# Altium integrated library Wurth_Elektronik_Passive_rev16a.IntLib: 1143 symbols (part 18 of 28)
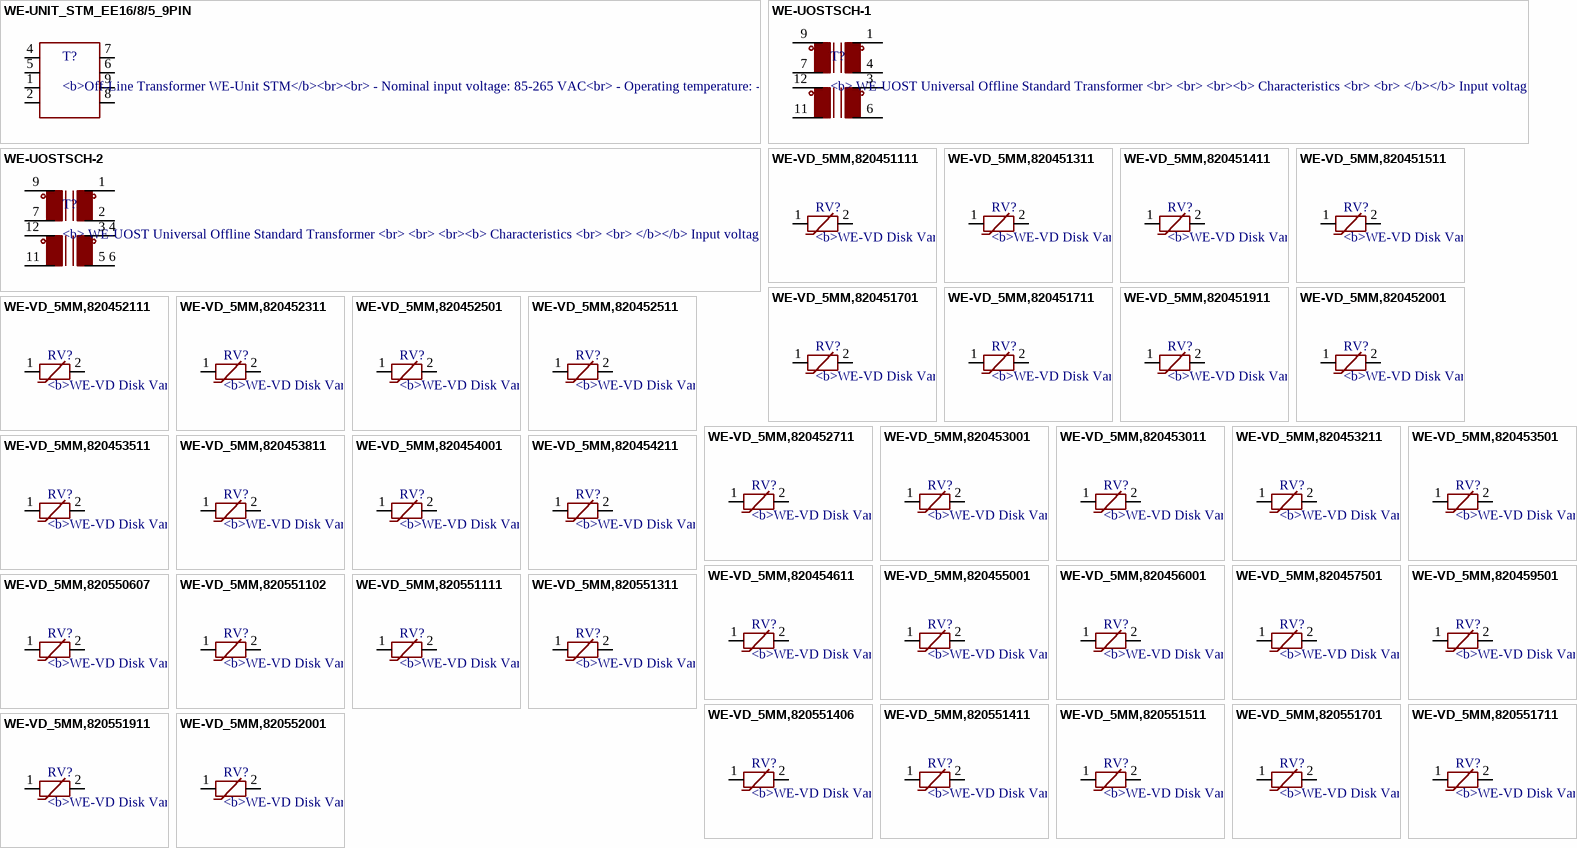
[diagram p75: symbols WE-UNIT_STM_EE16/8/5_9PIN to WE-VD_5MM,820552001]

## WE-VD_5MM,820452111
designator RV?, comment <b>WE-VD Disk Varistor / <br> / <br> / <br><b>Characteristics / <br> / <br></b></b> Low clamping voltage / <br> / <br> After a surge impulse the varistor works immediately in normal mode so there is no slip current / <br> / <br> Excellent absorption at surge impulses / <br> / <br> Operating temperature: –40 ºC to +85 ºC for types up to 95 VRMS –40 ºC to +125 ºC for types from 115 VRMS / <br> / <br> Response time < 25 ns / <br> / <br> UL1449 3rd Edition, CSA and VDE approved UL: File E332875 CSA: File 224856 VDE: File 40016986 and 40016998 IEC: 60950-1: 2005 Annex Q from ∅ 10 mm / <br> / <br> / <br><b> Applications / <br> / <br></b> 12–48 VDC distribution / <br> / <br> 110–400 V power supply / <br> / <br> Leakage of voltage peaks / <br> / <br> Surge protection in accordance with EN 61000-4-5 / <br> / <br> / <br> / <br><a href="http://katalog.we-online.de/media/images/eisos/VarVD_pf2.jpg" title="Enlarge picture"> / <img src="http://katalog.we-online.de/media/images/eisos/VarVD_pf2.jpg" width="320"></a><p> / Details see: <a href="http://katalog.we-online.de/en/pbs/WE-VD?">http://katalog.we-online.de/en/pbs/WE-VD?</a><p> / Updated  by  Dan Xu 2014-07-11<br> / 2014 (C) Wurth Elektronik
MANUFACTURER: Würth Elektronik eiSos GmbH; CREATED-BY: Christin Zierenner; COMPANY-URL: http://www.we-online.de; CREATED-DATE: May 2012; DATASHEET-URL: http://katalog.we-online.de/kataloge/eisos/index.php?language=en&pf=WE-VD
footprint WE-VD_5MM-1.0
pins: 1, 2

## WE-VD_5MM,820452311
designator RV?, comment <b>WE-VD Disk Varistor / <br> / <br> / <br><b>Characteristics / <br> / <br></b></b> Low clamping voltage / <br> / <br> After a surge impulse the varistor works immediately in normal mode so there is no slip current / <br> / <br> Excellent absorption at surge impulses / <br> / <br> Operating temperature: –40 ºC to +85 ºC for types up to 95 VRMS –40 ºC to +125 ºC for types from 115 VRMS / <br> / <br> Response time < 25 ns / <br> / <br> UL1449 3rd Edition, CSA and VDE approved UL: File E332875 CSA: File 224856 VDE: File 40016986 and 40016998 IEC: 60950-1: 2005 Annex Q from ∅ 10 mm / <br> / <br> / <br><b> Applications / <br> / <br></b> 12–48 VDC distribution / <br> / <br> 110–400 V power supply / <br> / <br> Leakage of voltage peaks / <br> / <br> Surge protection in accordance with EN 61000-4-5 / <br> / <br> / <br> / <br><a href="http://katalog.we-online.de/media/images/eisos/VarVD_pf2.jpg" title="Enlarge picture"> / <img src="http://katalog.we-online.de/media/images/eisos/VarVD_pf2.jpg" width="320"></a><p> / Details see: <a href="http://katalog.we-online.de/en/pbs/WE-VD?">http://katalog.we-online.de/en/pbs/WE-VD?</a><p> / Updated  by  Dan Xu 2014-07-11<br> / 2014 (C) Wurth Elektronik
MANUFACTURER: Würth Elektronik eiSos GmbH; CREATED-BY: Christin Zierenner; COMPANY-URL: http://www.we-online.de; CREATED-DATE: May 2012; DATASHEET-URL: http://katalog.we-online.de/kataloge/eisos/index.php?language=en&pf=WE-VD
footprint WE-VD_5MM-1.1
pins: 1, 2

## WE-VD_5MM,820452501
designator RV?, comment <b>WE-VD Disk Varistor / <br> / <br> / <br><b>Characteristics / <br> / <br></b></b> Low clamping voltage / <br> / <br> After a surge impulse the varistor works immediately in normal mode so there is no slip current / <br> / <br> Excellent absorption at surge impulses / <br> / <br> Operating temperature: –40 ºC to +85 ºC for types up to 95 VRMS –40 ºC to +125 ºC for types from 115 VRMS / <br> / <br> Response time < 25 ns / <br> / <br> UL1449 3rd Edition, CSA and VDE approved UL: File E332875 CSA: File 224856 VDE: File 40016986 and 40016998 IEC: 60950-1: 2005 Annex Q from ∅ 10 mm / <br> / <br> / <br><b> Applications / <br> / <br></b> 12–48 VDC distribution / <br> / <br> 110–400 V power supply / <br> / <br> Leakage of voltage peaks / <br> / <br> Surge protection in accordance with EN 61000-4-5 / <br> / <br> / <br> / <br><a href="http://katalog.we-online.de/media/images/eisos/VarVD_pf2.jpg" title="Enlarge picture"> / <img src="http://katalog.we-online.de/media/images/eisos/VarVD_pf2.jpg" width="320"></a><p> / Details see: <a href="http://katalog.we-online.de/en/pbs/WE-VD?">http://katalog.we-online.de/en/pbs/WE-VD?</a><p> / Updated  by  Dan Xu 2014-07-11<br> / 2014 (C) Wurth Elektronik
MANUFACTURER: Würth Elektronik eiSos GmbH; CREATED-BY: Christin Zierenner; COMPANY-URL: http://www.we-online.de; CREATED-DATE: May 2012; DATASHEET-URL: http://katalog.we-online.de/kataloge/eisos/index.php?language=en&pf=WE-VD
footprint WE-VD_5MM-DIA
pins: 1, 2

## WE-VD_5MM,820452511
designator RV?, comment <b>WE-VD Disk Varistor / <br> / <br> / <br><b>Characteristics / <br> / <br></b></b> Low clamping voltage / <br> / <br> After a surge impulse the varistor works immediately in normal mode so there is no slip current / <br> / <br> Excellent absorption at surge impulses / <br> / <br> Operating temperature: –40 ºC to +85 ºC for types up to 95 VRMS –40 ºC to +125 ºC for types from 115 VRMS / <br> / <br> Response time < 25 ns / <br> / <br> UL1449 3rd Edition, CSA and VDE approved UL: File E332875 CSA: File 224856 VDE: File 40016986 and 40016998 IEC: 60950-1: 2005 Annex Q from ∅ 10 mm / <br> / <br> / <br><b> Applications / <br> / <br></b> 12–48 VDC distribution / <br> / <br> 110–400 V power supply / <br> / <br> Leakage of voltage peaks / <br> / <br> Surge protection in accordance with EN 61000-4-5 / <br> / <br> / <br> / <br><a href="http://katalog.we-online.de/media/images/eisos/VarVD_pf2.jpg" title="Enlarge picture"> / <img src="http://katalog.we-online.de/media/images/eisos/VarVD_pf2.jpg" width="320"></a><p> / Details see: <a href="http://katalog.we-online.de/en/pbs/WE-VD?">http://katalog.we-online.de/en/pbs/WE-VD?</a><p> / Updated  by  Dan Xu 2014-07-11<br> / 2014 (C) Wurth Elektronik
MANUFACTURER: Würth Elektronik eiSos GmbH; CREATED-BY: Christin Zierenner; COMPANY-URL: http://www.we-online.de; CREATED-DATE: May 2012; DATASHEET-URL: http://katalog.we-online.de/kataloge/eisos/index.php?language=en&pf=WE-VD
footprint WE-VD_5MM-1.3
pins: 1, 2

## WE-VD_5MM,820452711
designator RV?, comment <b>WE-VD Disk Varistor / <br> / <br> / <br><b>Characteristics / <br> / <br></b></b> Low clamping voltage / <br> / <br> After a surge impulse the varistor works immediately in normal mode so there is no slip current / <br> / <br> Excellent absorption at surge impulses / <br> / <br> Operating temperature: –40 ºC to +85 ºC for types up to 95 VRMS –40 ºC to +125 ºC for types from 115 VRMS / <br> / <br> Response time < 25 ns / <br> / <br> UL1449 3rd Edition, CSA and VDE approved UL: File E332875 CSA: File 224856 VDE: File 40016986 and 40016998 IEC: 60950-1: 2005 Annex Q from ∅ 10 mm / <br> / <br> / <br><b> Applications / <br> / <br></b> 12–48 VDC distribution / <br> / <br> 110–400 V power supply / <br> / <br> Leakage of voltage peaks / <br> / <br> Surge protection in accordance with EN 61000-4-5 / <br> / <br> / <br> / <br><a href="http://katalog.we-online.de/media/images/eisos/VarVD_pf2.jpg" title="Enlarge picture"> / <img src="http://katalog.we-online.de/media/images/eisos/VarVD_pf2.jpg" width="320"></a><p> / Details see: <a href="http://katalog.we-online.de/en/pbs/WE-VD?">http://katalog.we-online.de/en/pbs/WE-VD?</a><p> / Updated  by  Dan Xu 2014-07-11<br> / 2014 (C) Wurth Elektronik
MANUFACTURER: Würth Elektronik eiSos GmbH; CREATED-BY: Christin Zierenner; COMPANY-URL: http://www.we-online.de; CREATED-DATE: May 2012; DATASHEET-URL: http://katalog.we-online.de/kataloge/eisos/index.php?language=en&pf=WE-VD
footprint WE-VD_5MM-1.5
pins: 1, 2

## WE-VD_5MM,820453001
designator RV?, comment <b>WE-VD Disk Varistor / <br> / <br> / <br><b>Characteristics / <br> / <br></b></b> Low clamping voltage / <br> / <br> After a surge impulse the varistor works immediately in normal mode so there is no slip current / <br> / <br> Excellent absorption at surge impulses / <br> / <br> Operating temperature: –40 ºC to +85 ºC for types up to 95 VRMS –40 ºC to +125 ºC for types from 115 VRMS / <br> / <br> Response time < 25 ns / <br> / <br> UL1449 3rd Edition, CSA and VDE approved UL: File E332875 CSA: File 224856 VDE: File 40016986 and 40016998 IEC: 60950-1: 2005 Annex Q from ∅ 10 mm / <br> / <br> / <br><b> Applications / <br> / <br></b> 12–48 VDC distribution / <br> / <br> 110–400 V power supply / <br> / <br> Leakage of voltage peaks / <br> / <br> Surge protection in accordance with EN 61000-4-5 / <br> / <br> / <br> / <br><a href="http://katalog.we-online.de/media/images/eisos/VarVD_pf2.jpg" title="Enlarge picture"> / <img src="http://katalog.we-online.de/media/images/eisos/VarVD_pf2.jpg" width="320"></a><p> / Details see: <a href="http://katalog.we-online.de/en/pbs/WE-VD?">http://katalog.we-online.de/en/pbs/WE-VD?</a><p> / Updated  by  Dan Xu 2014-07-11<br> / 2014 (C) Wurth Elektronik
MANUFACTURER: Würth Elektronik eiSos GmbH; CREATED-BY: Christin Zierenner; COMPANY-URL: http://www.we-online.de; CREATED-DATE: May 2012; DATASHEET-URL: http://katalog.we-online.de/kataloge/eisos/media/pdf/820453001.pdf
footprint WE-VD_5MM-DIA
pins: 1, 2

## WE-VD_5MM,820453011
designator RV?, comment <b>WE-VD Disk Varistor / <br> / <br> / <br><b>Characteristics / <br> / <br></b></b> Low clamping voltage / <br> / <br> After a surge impulse the varistor works immediately in normal mode so there is no slip current / <br> / <br> Excellent absorption at surge impulses / <br> / <br> Operating temperature: –40 ºC to +85 ºC for types up to 95 VRMS –40 ºC to +125 ºC for types from 115 VRMS / <br> / <br> Response time < 25 ns / <br> / <br> UL1449 3rd Edition, CSA and VDE approved UL: File E332875 CSA: File 224856 VDE: File 40016986 and 40016998 IEC: 60950-1: 2005 Annex Q from ∅ 10 mm / <br> / <br> / <br><b> Applications / <br> / <br></b> 12–48 VDC distribution / <br> / <br> 110–400 V power supply / <br> / <br> Leakage of voltage peaks / <br> / <br> Surge protection in accordance with EN 61000-4-5 / <br> / <br> / <br> / <br><a href="http://katalog.we-online.de/media/images/eisos/VarVD_pf2.jpg" title="Enlarge picture"> / <img src="http://katalog.we-online.de/media/images/eisos/VarVD_pf2.jpg" width="320"></a><p> / Details see: <a href="http://katalog.we-online.de/en/pbs/WE-VD?">http://katalog.we-online.de/en/pbs/WE-VD?</a><p> / Updated  by  Dan Xu 2014-07-11<br> / 2014 (C) Wurth Elektronik
MANUFACTURER: Würth Elektronik eiSos GmbH; CREATED-BY: Christin Zierenner; COMPANY-URL: http://www.we-online.de; CREATED-DATE: May 2012; DATASHEET-URL: http://katalog.we-online.de/kataloge/eisos/index.php?language=en&pf=WE-VD
footprint WE-VD_5MM-1.7
pins: 1, 2

## WE-VD_5MM,820453211
designator RV?, comment <b>WE-VD Disk Varistor / <br> / <br> / <br><b>Characteristics / <br> / <br></b></b> Low clamping voltage / <br> / <br> After a surge impulse the varistor works immediately in normal mode so there is no slip current / <br> / <br> Excellent absorption at surge impulses / <br> / <br> Operating temperature: –40 ºC to +85 ºC for types up to 95 VRMS –40 ºC to +125 ºC for types from 115 VRMS / <br> / <br> Response time < 25 ns / <br> / <br> UL1449 3rd Edition, CSA and VDE approved UL: File E332875 CSA: File 224856 VDE: File 40016986 and 40016998 IEC: 60950-1: 2005 Annex Q from ∅ 10 mm / <br> / <br> / <br><b> Applications / <br> / <br></b> 12–48 VDC distribution / <br> / <br> 110–400 V power supply / <br> / <br> Leakage of voltage peaks / <br> / <br> Surge protection in accordance with EN 61000-4-5 / <br> / <br> / <br> / <br><a href="http://katalog.we-online.de/media/images/eisos/VarVD_pf2.jpg" title="Enlarge picture"> / <img src="http://katalog.we-online.de/media/images/eisos/VarVD_pf2.jpg" width="320"></a><p> / Details see: <a href="http://katalog.we-online.de/en/pbs/WE-VD?">http://katalog.we-online.de/en/pbs/WE-VD?</a><p> / Updated  by  Dan Xu 2014-07-11<br> / 2014 (C) Wurth Elektronik
MANUFACTURER: Würth Elektronik eiSos GmbH; CREATED-BY: Christin Zierenner; COMPANY-URL: http://www.we-online.de; CREATED-DATE: May 2012; DATASHEET-URL: http://katalog.we-online.de/kataloge/eisos/index.php?language=en&pf=WE-VD
footprint WE-VD_5MM-1.8
pins: 1, 2

## WE-VD_5MM,820453501
designator RV?, comment <b>WE-VD Disk Varistor / <br> / <br> / <br><b>Characteristics / <br> / <br></b></b> Low clamping voltage / <br> / <br> After a surge impulse the varistor works immediately in normal mode so there is no slip current / <br> / <br> Excellent absorption at surge impulses / <br> / <br> Operating temperature: –40 ºC to +85 ºC for types up to 95 VRMS –40 ºC to +125 ºC for types from 115 VRMS / <br> / <br> Response time < 25 ns / <br> / <br> UL1449 3rd Edition, CSA and VDE approved UL: File E332875 CSA: File 224856 VDE: File 40016986 and 40016998 IEC: 60950-1: 2005 Annex Q from ∅ 10 mm / <br> / <br> / <br><b> Applications / <br> / <br></b> 12–48 VDC distribution / <br> / <br> 110–400 V power supply / <br> / <br> Leakage of voltage peaks / <br> / <br> Surge protection in accordance with EN 61000-4-5 / <br> / <br> / <br> / <br><a href="http://katalog.we-online.de/media/images/eisos/VarVD_pf2.jpg" title="Enlarge picture"> / <img src="http://katalog.we-online.de/media/images/eisos/VarVD_pf2.jpg" width="320"></a><p> / Details see: <a href="http://katalog.we-online.de/en/pbs/WE-VD?">http://katalog.we-online.de/en/pbs/WE-VD?</a><p> / Updated  by  Dan Xu 2014-07-11<br> / 2014 (C) Wurth Elektronik
MANUFACTURER: Würth Elektronik eiSos GmbH; CREATED-BY: Christin Zierenner; COMPANY-URL: http://www.we-online.de; CREATED-DATE: May 2012; DATASHEET-URL: http://katalog.we-online.de/kataloge/eisos/index.php?language=en&pf=WE-VD
footprint WE-VD_5MM-1.1
pins: 1, 2

## WE-VD_5MM,820453511
designator RV?, comment <b>WE-VD Disk Varistor / <br> / <br> / <br><b>Characteristics / <br> / <br></b></b> Low clamping voltage / <br> / <br> After a surge impulse the varistor works immediately in normal mode so there is no slip current / <br> / <br> Excellent absorption at surge impulses / <br> / <br> Operating temperature: –40 ºC to +85 ºC for types up to 95 VRMS –40 ºC to +125 ºC for types from 115 VRMS / <br> / <br> Response time < 25 ns / <br> / <br> UL1449 3rd Edition, CSA and VDE approved UL: File E332875 CSA: File 224856 VDE: File 40016986 and 40016998 IEC: 60950-1: 2005 Annex Q from ∅ 10 mm / <br> / <br> / <br><b> Applications / <br> / <br></b> 12–48 VDC distribution / <br> / <br> 110–400 V power supply / <br> / <br> Leakage of voltage peaks / <br> / <br> Surge protection in accordance with EN 61000-4-5 / <br> / <br> / <br> / <br><a href="http://katalog.we-online.de/media/images/eisos/VarVD_pf2.jpg" title="Enlarge picture"> / <img src="http://katalog.we-online.de/media/images/eisos/VarVD_pf2.jpg" width="320"></a><p> / Details see: <a href="http://katalog.we-online.de/en/pbs/WE-VD?">http://katalog.we-online.de/en/pbs/WE-VD?</a><p> / Updated  by  Dan Xu 2014-07-11<br> / 2014 (C) Wurth Elektronik
MANUFACTURER: Würth Elektronik eiSos GmbH; CREATED-BY: Christin Zierenner; COMPANY-URL: http://www.we-online.de; CREATED-DATE: May 2012; DATASHEET-URL: http://katalog.we-online.de/kataloge/eisos/index.php?language=en&pf=WE-VD
footprint WE-VD_5MM-2.1
pins: 1, 2

## WE-VD_5MM,820453811
designator RV?, comment <b>WE-VD Disk Varistor / <br> / <br> / <br><b>Characteristics / <br> / <br></b></b> Low clamping voltage / <br> / <br> After a surge impulse the varistor works immediately in normal mode so there is no slip current / <br> / <br> Excellent absorption at surge impulses / <br> / <br> Operating temperature: –40 ºC to +85 ºC for types up to 95 VRMS –40 ºC to +125 ºC for types from 115 VRMS / <br> / <br> Response time < 25 ns / <br> / <br> UL1449 3rd Edition, CSA and VDE approved UL: File E332875 CSA: File 224856 VDE: File 40016986 and 40016998 IEC: 60950-1: 2005 Annex Q from ∅ 10 mm / <br> / <br> / <br><b> Applications / <br> / <br></b> 12–48 VDC distribution / <br> / <br> 110–400 V power supply / <br> / <br> Leakage of voltage peaks / <br> / <br> Surge protection in accordance with EN 61000-4-5 / <br> / <br> / <br> / <br><a href="http://katalog.we-online.de/media/images/eisos/VarVD_pf2.jpg" title="Enlarge picture"> / <img src="http://katalog.we-online.de/media/images/eisos/VarVD_pf2.jpg" width="320"></a><p> / Details see: <a href="http://katalog.we-online.de/en/pbs/WE-VD?">http://katalog.we-online.de/en/pbs/WE-VD?</a><p> / Updated  by  Dan Xu 2014-07-11<br> / 2014 (C) Wurth Elektronik
MANUFACTURER: Würth Elektronik eiSos GmbH; CREATED-BY: Christin Zierenner; COMPANY-URL: http://www.we-online.de; CREATED-DATE: May 2012; DATASHEET-URL: http://katalog.we-online.de/kataloge/eisos/media/pdf/820453811.pdf
footprint WE-VD_5MM-2.4
pins: 1, 2

## WE-VD_5MM,820454001
designator RV?, comment <b>WE-VD Disk Varistor / <br> / <br> / <br><b>Characteristics / <br> / <br></b></b> Low clamping voltage / <br> / <br> After a surge impulse the varistor works immediately in normal mode so there is no slip current / <br> / <br> Excellent absorption at surge impulses / <br> / <br> Operating temperature: –40 ºC to +85 ºC for types up to 95 VRMS –40 ºC to +125 ºC for types from 115 VRMS / <br> / <br> Response time < 25 ns / <br> / <br> UL1449 3rd Edition, CSA and VDE approved UL: File E332875 CSA: File 224856 VDE: File 40016986 and 40016998 IEC: 60950-1: 2005 Annex Q from ∅ 10 mm / <br> / <br> / <br><b> Applications / <br> / <br></b> 12–48 VDC distribution / <br> / <br> 110–400 V power supply / <br> / <br> Leakage of voltage peaks / <br> / <br> Surge protection in accordance with EN 61000-4-5 / <br> / <br> / <br> / <br><a href="http://katalog.we-online.de/media/images/eisos/VarVD_pf2.jpg" title="Enlarge picture"> / <img src="http://katalog.we-online.de/media/images/eisos/VarVD_pf2.jpg" width="320"></a><p> / Details see: <a href="http://katalog.we-online.de/en/pbs/WE-VD?">http://katalog.we-online.de/en/pbs/WE-VD?</a><p> / Updated  by  Dan Xu 2014-07-11<br> / 2014 (C) Wurth Elektronik
MANUFACTURER: Würth Elektronik eiSos GmbH; CREATED-BY: Christin Zierenner; COMPANY-URL: http://www.we-online.de; CREATED-DATE: May 2012; DATASHEET-URL: http://katalog.we-online.de/kataloge/eisos/index.php?language=en&pf=WE-VD
footprint WE-VD_5MM-1.5
pins: 1, 2

## WE-VD_5MM,820454211
designator RV?, comment <b>WE-VD Disk Varistor / <br> / <br> / <br><b>Characteristics / <br> / <br></b></b> Low clamping voltage / <br> / <br> After a surge impulse the varistor works immediately in normal mode so there is no slip current / <br> / <br> Excellent absorption at surge impulses / <br> / <br> Operating temperature: –40 ºC to +85 ºC for types up to 95 VRMS –40 ºC to +125 ºC for types from 115 VRMS / <br> / <br> Response time < 25 ns / <br> / <br> UL1449 3rd Edition, CSA and VDE approved UL: File E332875 CSA: File 224856 VDE: File 40016986 and 40016998 IEC: 60950-1: 2005 Annex Q from ∅ 10 mm / <br> / <br> / <br><b> Applications / <br> / <br></b> 12–48 VDC distribution / <br> / <br> 110–400 V power supply / <br> / <br> Leakage of voltage peaks / <br> / <br> Surge protection in accordance with EN 61000-4-5 / <br> / <br> / <br> / <br><a href="http://katalog.we-online.de/media/images/eisos/VarVD_pf2.jpg" title="Enlarge picture"> / <img src="http://katalog.we-online.de/media/images/eisos/VarVD_pf2.jpg" width="320"></a><p> / Details see: <a href="http://katalog.we-online.de/en/pbs/WE-VD?">http://katalog.we-online.de/en/pbs/WE-VD?</a><p> / Updated  by  Dan Xu 2014-07-11<br> / 2014 (C) Wurth Elektronik
MANUFACTURER: Würth Elektronik eiSos GmbH; CREATED-BY: Christin Zierenner; COMPANY-URL: http://www.we-online.de; CREATED-DATE: May 2012; DATASHEET-URL: http://katalog.we-online.de/kataloge/eisos/index.php?language=en&pf=WE-VD
footprint WE-VD_5MM-2.7
pins: 1, 2

## WE-VD_5MM,820454611
designator RV?, comment <b>WE-VD Disk Varistor / <br> / <br> / <br><b>Characteristics / <br> / <br></b></b> Low clamping voltage / <br> / <br> After a surge impulse the varistor works immediately in normal mode so there is no slip current / <br> / <br> Excellent absorption at surge impulses / <br> / <br> Operating temperature: –40 ºC to +85 ºC for types up to 95 VRMS –40 ºC to +125 ºC for types from 115 VRMS / <br> / <br> Response time < 25 ns / <br> / <br> UL1449 3rd Edition, CSA and VDE approved UL: File E332875 CSA: File 224856 VDE: File 40016986 and 40016998 IEC: 60950-1: 2005 Annex Q from ∅ 10 mm / <br> / <br> / <br><b> Applications / <br> / <br></b> 12–48 VDC distribution / <br> / <br> 110–400 V power supply / <br> / <br> Leakage of voltage peaks / <br> / <br> Surge protection in accordance with EN 61000-4-5 / <br> / <br> / <br> / <br><a href="http://katalog.we-online.de/media/images/eisos/VarVD_pf2.jpg" title="Enlarge picture"> / <img src="http://katalog.we-online.de/media/images/eisos/VarVD_pf2.jpg" width="320"></a><p> / Details see: <a href="http://katalog.we-online.de/en/pbs/WE-VD?">http://katalog.we-online.de/en/pbs/WE-VD?</a><p> / Updated  by  Dan Xu 2014-07-11<br> / 2014 (C) Wurth Elektronik
MANUFACTURER: Würth Elektronik eiSos GmbH; CREATED-BY: Christin Zierenner; COMPANY-URL: http://www.we-online.de; CREATED-DATE: May 2012; DATASHEET-URL: http://katalog.we-online.de/kataloge/eisos/index.php?language=en&pf=WE-VD
footprint WE-VD_5MM-3.0
pins: 1, 2

## WE-VD_5MM,820455001
designator RV?, comment <b>WE-VD Disk Varistor / <br> / <br> / <br><b>Characteristics / <br> / <br></b></b> Low clamping voltage / <br> / <br> After a surge impulse the varistor works immediately in normal mode so there is no slip current / <br> / <br> Excellent absorption at surge impulses / <br> / <br> Operating temperature: –40 ºC to +85 ºC for types up to 95 VRMS –40 ºC to +125 ºC for types from 115 VRMS / <br> / <br> Response time < 25 ns / <br> / <br> UL1449 3rd Edition, CSA and VDE approved UL: File E332875 CSA: File 224856 VDE: File 40016986 and 40016998 IEC: 60950-1: 2005 Annex Q from ∅ 10 mm / <br> / <br> / <br><b> Applications / <br> / <br></b> 12–48 VDC distribution / <br> / <br> 110–400 V power supply / <br> / <br> Leakage of voltage peaks / <br> / <br> Surge protection in accordance with EN 61000-4-5 / <br> / <br> / <br> / <br><a href="http://katalog.we-online.de/media/images/eisos/VarVD_pf2.jpg" title="Enlarge picture"> / <img src="http://katalog.we-online.de/media/images/eisos/VarVD_pf2.jpg" width="320"></a><p> / Details see: <a href="http://katalog.we-online.de/en/pbs/WE-VD?">http://katalog.we-online.de/en/pbs/WE-VD?</a><p> / Updated  by  Dan Xu 2014-07-11<br> / 2014 (C) Wurth Elektronik
MANUFACTURER: Würth Elektronik eiSos GmbH; CREATED-BY: Christin Zierenner; COMPANY-URL: http://www.we-online.de; CREATED-DATE: May 2012; DATASHEET-URL: http://katalog.we-online.de/kataloge/eisos/index.php?language=en&pf=WE-VD
footprint WE-VD_5MM-DIA
pins: 1, 2

## WE-VD_5MM,820456001
designator RV?, comment <b>WE-VD Disk Varistor / <br> / <br> / <br><b>Characteristics / <br> / <br></b></b> Low clamping voltage / <br> / <br> After a surge impulse the varistor works immediately in normal mode so there is no slip current / <br> / <br> Excellent absorption at surge impulses / <br> / <br> Operating temperature: –40 ºC to +85 ºC for types up to 95 VRMS –40 ºC to +125 ºC for types from 115 VRMS / <br> / <br> Response time < 25 ns / <br> / <br> UL1449 3rd Edition, CSA and VDE approved UL: File E332875 CSA: File 224856 VDE: File 40016986 and 40016998 IEC: 60950-1: 2005 Annex Q from ∅ 10 mm / <br> / <br> / <br><b> Applications / <br> / <br></b> 12–48 VDC distribution / <br> / <br> 110–400 V power supply / <br> / <br> Leakage of voltage peaks / <br> / <br> Surge protection in accordance with EN 61000-4-5 / <br> / <br> / <br> / <br><a href="http://katalog.we-online.de/media/images/eisos/VarVD_pf2.jpg" title="Enlarge picture"> / <img src="http://katalog.we-online.de/media/images/eisos/VarVD_pf2.jpg" width="320"></a><p> / Details see: <a href="http://katalog.we-online.de/en/pbs/WE-VD?">http://katalog.we-online.de/en/pbs/WE-VD?</a><p> / Updated  by  Dan Xu 2014-07-11<br> / 2014 (C) Wurth Elektronik
MANUFACTURER: Würth Elektronik eiSos GmbH; CREATED-BY: Christin Zierenner; COMPANY-URL: http://www.we-online.de; CREATED-DATE: May 2012; DATASHEET-URL: http://katalog.we-online.de/kataloge/eisos/index.php?language=en&pf=WE-VD
footprint WE-VD_5MM-DIA
pins: 1, 2

## WE-VD_5MM,820457501
designator RV?, comment <b>WE-VD Disk Varistor / <br> / <br> / <br><b>Characteristics / <br> / <br></b></b> Low clamping voltage / <br> / <br> After a surge impulse the varistor works immediately in normal mode so there is no slip current / <br> / <br> Excellent absorption at surge impulses / <br> / <br> Operating temperature: –40 ºC to +85 ºC for types up to 95 VRMS –40 ºC to +125 ºC for types from 115 VRMS / <br> / <br> Response time < 25 ns / <br> / <br> UL1449 3rd Edition, CSA and VDE approved UL: File E332875 CSA: File 224856 VDE: File 40016986 and 40016998 IEC: 60950-1: 2005 Annex Q from ∅ 10 mm / <br> / <br> / <br><b> Applications / <br> / <br></b> 12–48 VDC distribution / <br> / <br> 110–400 V power supply / <br> / <br> Leakage of voltage peaks / <br> / <br> Surge protection in accordance with EN 61000-4-5 / <br> / <br> / <br> / <br><a href="http://katalog.we-online.de/media/images/eisos/VarVD_pf2.jpg" title="Enlarge picture"> / <img src="http://katalog.we-online.de/media/images/eisos/VarVD_pf2.jpg" width="320"></a><p> / Details see: <a href="http://katalog.we-online.de/en/pbs/WE-VD?">http://katalog.we-online.de/en/pbs/WE-VD?</a><p> / Updated  by  Dan Xu 2014-07-11<br> / 2014 (C) Wurth Elektronik
MANUFACTURER: Würth Elektronik eiSos GmbH; CREATED-BY: Christin Zierenner; COMPANY-URL: http://www.we-online.de; CREATED-DATE: May 2012; DATASHEET-URL: http://katalog.we-online.de/kataloge/eisos/index.php?language=en&pf=WE-VD
footprint WE-VD_5MM-DIA
pins: 1, 2

## WE-VD_5MM,820459501
designator RV?, comment <b>WE-VD Disk Varistor / <br> / <br> / <br><b>Characteristics / <br> / <br></b></b> Low clamping voltage / <br> / <br> After a surge impulse the varistor works immediately in normal mode so there is no slip current / <br> / <br> Excellent absorption at surge impulses / <br> / <br> Operating temperature: –40 ºC to +85 ºC for types up to 95 VRMS –40 ºC to +125 ºC for types from 115 VRMS / <br> / <br> Response time < 25 ns / <br> / <br> UL1449 3rd Edition, CSA and VDE approved UL: File E332875 CSA: File 224856 VDE: File 40016986 and 40016998 IEC: 60950-1: 2005 Annex Q from ∅ 10 mm / <br> / <br> / <br><b> Applications / <br> / <br></b> 12–48 VDC distribution / <br> / <br> 110–400 V power supply / <br> / <br> Leakage of voltage peaks / <br> / <br> Surge protection in accordance with EN 61000-4-5 / <br> / <br> / <br> / <br><a href="http://katalog.we-online.de/media/images/eisos/VarVD_pf2.jpg" title="Enlarge picture"> / <img src="http://katalog.we-online.de/media/images/eisos/VarVD_pf2.jpg" width="320"></a><p> / Details see: <a href="http://katalog.we-online.de/en/pbs/WE-VD?">http://katalog.we-online.de/en/pbs/WE-VD?</a><p> / Updated  by  Dan Xu 2014-07-11<br> / 2014 (C) Wurth Elektronik
MANUFACTURER: Würth Elektronik eiSos GmbH; CREATED-BY: Christin Zierenner; COMPANY-URL: http://www.we-online.de; CREATED-DATE: May 2012; DATASHEET-URL: http://katalog.we-online.de/kataloge/eisos/index.php?language=en&pf=WE-VD
footprint WE-VD_5MM-DIA
pins: 1, 2

## WE-VD_5MM,820550607
designator RV?, comment <b>WE-VD Disk Varistor / <br> / <br> / <br><b>Characteristics / <br> / <br></b></b> Low clamping voltage / <br> / <br> After a surge impulse the varistor works immediately in normal mode so there is no slip current / <br> / <br> Excellent absorption at surge impulses / <br> / <br> Operating temperature: –40 ºC to +85 ºC for types up to 95 VRMS –40 ºC to +125 ºC for types from 115 VRMS / <br> / <br> Response time < 25 ns / <br> / <br> UL1449 3rd Edition, CSA and VDE approved UL: File E332875 CSA: File 224856 VDE: File 40016986 and 40016998 IEC: 60950-1: 2005 Annex Q from ∅ 10 mm / <br> / <br> / <br><b> Applications / <br> / <br></b> 12–48 VDC distribution / <br> / <br> 110–400 V power supply / <br> / <br> Leakage of voltage peaks / <br> / <br> Surge protection in accordance with EN 61000-4-5 / <br> / <br> / <br> / <br><a href="http://katalog.we-online.de/media/images/eisos/VarVD_pf2.jpg" title="Enlarge picture"> / <img src="http://katalog.we-online.de/media/images/eisos/VarVD_pf2.jpg" width="320"></a><p> / Details see: <a href="http://katalog.we-online.de/en/pbs/WE-VD?">http://katalog.we-online.de/en/pbs/WE-VD?</a><p> / Updated  by  Dan Xu 2014-07-11<br> / 2014 (C) Wurth Elektronik
MANUFACTURER: Würth Elektronik eiSos GmbH; CREATED-BY: Christin Zierenner; COMPANY-URL: http://www.we-online.de; CREATED-DATE: May 2012; DATASHEET-URL: http://katalog.we-online.de/kataloge/eisos/index.php?language=en&pf=WE-VD
footprint WE-VD_5MM-DIA
pins: 1, 2

## WE-VD_5MM,820551102
designator RV?, comment <b>WE-VD Disk Varistor / <br> / <br> / <br><b>Characteristics / <br> / <br></b></b> Low clamping voltage / <br> / <br> After a surge impulse the varistor works immediately in normal mode so there is no slip current / <br> / <br> Excellent absorption at surge impulses / <br> / <br> Operating temperature: –40 ºC to +85 ºC for types up to 95 VRMS –40 ºC to +125 ºC for types from 115 VRMS / <br> / <br> Response time < 25 ns / <br> / <br> UL1449 3rd Edition, CSA and VDE approved UL: File E332875 CSA: File 224856 VDE: File 40016986 and 40016998 IEC: 60950-1: 2005 Annex Q from ∅ 10 mm / <br> / <br> / <br><b> Applications / <br> / <br></b> 12–48 VDC distribution / <br> / <br> 110–400 V power supply / <br> / <br> Leakage of voltage peaks / <br> / <br> Surge protection in accordance with EN 61000-4-5 / <br> / <br> / <br> / <br><a href="http://katalog.we-online.de/media/images/eisos/VarVD_pf2.jpg" title="Enlarge picture"> / <img src="http://katalog.we-online.de/media/images/eisos/VarVD_pf2.jpg" width="320"></a><p> / Details see: <a href="http://katalog.we-online.de/en/pbs/WE-VD?">http://katalog.we-online.de/en/pbs/WE-VD?</a><p> / Updated  by  Dan Xu 2014-07-11<br> / 2014 (C) Wurth Elektronik
MANUFACTURER: Würth Elektronik eiSos GmbH; CREATED-BY: Christin Zierenner; COMPANY-URL: http://www.we-online.de; CREATED-DATE: May 2012; DATASHEET-URL: http://katalog.we-online.de/kataloge/eisos/index.php?language=en&pf=WE-VD
footprint WE-VD_5MM-DIA
pins: 1, 2

## WE-VD_5MM,820551111
designator RV?, comment <b>WE-VD Disk Varistor / <br> / <br> / <br><b>Characteristics / <br> / <br></b></b> Low clamping voltage / <br> / <br> After a surge impulse the varistor works immediately in normal mode so there is no slip current / <br> / <br> Excellent absorption at surge impulses / <br> / <br> Operating temperature: –40 ºC to +85 ºC for types up to 95 VRMS –40 ºC to +125 ºC for types from 115 VRMS / <br> / <br> Response time < 25 ns / <br> / <br> UL1449 3rd Edition, CSA and VDE approved UL: File E332875 CSA: File 224856 VDE: File 40016986 and 40016998 IEC: 60950-1: 2005 Annex Q from ∅ 10 mm / <br> / <br> / <br><b> Applications / <br> / <br></b> 12–48 VDC distribution / <br> / <br> 110–400 V power supply / <br> / <br> Leakage of voltage peaks / <br> / <br> Surge protection in accordance with EN 61000-4-5 / <br> / <br> / <br> / <br><a href="http://katalog.we-online.de/media/images/eisos/VarVD_pf2.jpg" title="Enlarge picture"> / <img src="http://katalog.we-online.de/media/images/eisos/VarVD_pf2.jpg" width="320"></a><p> / Details see: <a href="http://katalog.we-online.de/en/pbs/WE-VD?">http://katalog.we-online.de/en/pbs/WE-VD?</a><p> / Updated  by  Dan Xu 2014-07-11<br> / 2014 (C) Wurth Elektronik
MANUFACTURER: Würth Elektronik eiSos GmbH; CREATED-BY: Christin Zierenner; COMPANY-URL: http://www.we-online.de; CREATED-DATE: May 2012; DATASHEET-URL: http://katalog.we-online.de/kataloge/eisos/index.php?language=en&pf=WE-VD
footprint WE-VD_5MM-DIA
pins: 1, 2

## WE-VD_5MM,820551311
designator RV?, comment <b>WE-VD Disk Varistor / <br> / <br> / <br><b>Characteristics / <br> / <br></b></b> Low clamping voltage / <br> / <br> After a surge impulse the varistor works immediately in normal mode so there is no slip current / <br> / <br> Excellent absorption at surge impulses / <br> / <br> Operating temperature: –40 ºC to +85 ºC for types up to 95 VRMS –40 ºC to +125 ºC for types from 115 VRMS / <br> / <br> Response time < 25 ns / <br> / <br> UL1449 3rd Edition, CSA and VDE approved UL: File E332875 CSA: File 224856 VDE: File 40016986 and 40016998 IEC: 60950-1: 2005 Annex Q from ∅ 10 mm / <br> / <br> / <br><b> Applications / <br> / <br></b> 12–48 VDC distribution / <br> / <br> 110–400 V power supply / <br> / <br> Leakage of voltage peaks / <br> / <br> Surge protection in accordance with EN 61000-4-5 / <br> / <br> / <br> / <br><a href="http://katalog.we-online.de/media/images/eisos/VarVD_pf2.jpg" title="Enlarge picture"> / <img src="http://katalog.we-online.de/media/images/eisos/VarVD_pf2.jpg" width="320"></a><p> / Details see: <a href="http://katalog.we-online.de/en/pbs/WE-VD?">http://katalog.we-online.de/en/pbs/WE-VD?</a><p> / Updated  by  Dan Xu 2014-07-11<br> / 2014 (C) Wurth Elektronik
MANUFACTURER: Würth Elektronik eiSos GmbH; CREATED-BY: Christin Zierenner; COMPANY-URL: http://www.we-online.de; CREATED-DATE: May 2012; DATASHEET-URL: http://katalog.we-online.de/kataloge/eisos/media/pdf/820551311.pdf
footprint WE-VD_5MM-DIA
pins: 1, 2

## WE-VD_5MM,820551406
designator RV?, comment <b>WE-VD Disk Varistor / <br> / <br> / <br><b>Characteristics / <br> / <br></b></b> Low clamping voltage / <br> / <br> After a surge impulse the varistor works immediately in normal mode so there is no slip current / <br> / <br> Excellent absorption at surge impulses / <br> / <br> Operating temperature: –40 ºC to +85 ºC for types up to 95 VRMS –40 ºC to +125 ºC for types from 115 VRMS / <br> / <br> Response time < 25 ns / <br> / <br> UL1449 3rd Edition, CSA and VDE approved UL: File E332875 CSA: File 224856 VDE: File 40016986 and 40016998 IEC: 60950-1: 2005 Annex Q from ∅ 10 mm / <br> / <br> / <br><b> Applications / <br> / <br></b> 12–48 VDC distribution / <br> / <br> 110–400 V power supply / <br> / <br> Leakage of voltage peaks / <br> / <br> Surge protection in accordance with EN 61000-4-5 / <br> / <br> / <br> / <br><a href="http://katalog.we-online.de/media/images/eisos/VarVD_pf2.jpg" title="Enlarge picture"> / <img src="http://katalog.we-online.de/media/images/eisos/VarVD_pf2.jpg" width="320"></a><p> / Details see: <a href="http://katalog.we-online.de/en/pbs/WE-VD?">http://katalog.we-online.de/en/pbs/WE-VD?</a><p> / Updated  by  Dan Xu 2014-07-11<br> / 2014 (C) Wurth Elektronik
MANUFACTURER: Würth Elektronik eiSos GmbH; CREATED-BY: Christin Zierenner; COMPANY-URL: http://www.we-online.de; CREATED-DATE: May 2012; DATASHEET-URL: http://katalog.we-online.de/kataloge/eisos/media/pdf/820551406.pdf
footprint WE-VD_5MM-DIA
pins: 1, 2

## WE-VD_5MM,820551411
designator RV?, comment <b>WE-VD Disk Varistor / <br> / <br> / <br><b>Characteristics / <br> / <br></b></b> Low clamping voltage / <br> / <br> After a surge impulse the varistor works immediately in normal mode so there is no slip current / <br> / <br> Excellent absorption at surge impulses / <br> / <br> Operating temperature: –40 ºC to +85 ºC for types up to 95 VRMS –40 ºC to +125 ºC for types from 115 VRMS / <br> / <br> Response time < 25 ns / <br> / <br> UL1449 3rd Edition, CSA and VDE approved UL: File E332875 CSA: File 224856 VDE: File 40016986 and 40016998 IEC: 60950-1: 2005 Annex Q from ∅ 10 mm / <br> / <br> / <br><b> Applications / <br> / <br></b> 12–48 VDC distribution / <br> / <br> 110–400 V power supply / <br> / <br> Leakage of voltage peaks / <br> / <br> Surge protection in accordance with EN 61000-4-5 / <br> / <br> / <br> / <br><a href="http://katalog.we-online.de/media/images/eisos/VarVD_pf2.jpg" title="Enlarge picture"> / <img src="http://katalog.we-online.de/media/images/eisos/VarVD_pf2.jpg" width="320"></a><p> / Details see: <a href="http://katalog.we-online.de/en/pbs/WE-VD?">http://katalog.we-online.de/en/pbs/WE-VD?</a><p> / Updated  by  Dan Xu 2014-07-11<br> / 2014 (C) Wurth Elektronik
MANUFACTURER: Würth Elektronik eiSos GmbH; CREATED-BY: Christin Zierenner; COMPANY-URL: http://www.we-online.de; CREATED-DATE: May 2012; DATASHEET-URL: http://katalog.we-online.de/kataloge/eisos/index.php?language=en&pf=WE-VD
footprint WE-VD_5MM-DIA
pins: 1, 2

## WE-VD_5MM,820551511
designator RV?, comment <b>WE-VD Disk Varistor / <br> / <br> / <br><b>Characteristics / <br> / <br></b></b> Low clamping voltage / <br> / <br> After a surge impulse the varistor works immediately in normal mode so there is no slip current / <br> / <br> Excellent absorption at surge impulses / <br> / <br> Operating temperature: –40 ºC to +85 ºC for types up to 95 VRMS –40 ºC to +125 ºC for types from 115 VRMS / <br> / <br> Response time < 25 ns / <br> / <br> UL1449 3rd Edition, CSA and VDE approved UL: File E332875 CSA: File 224856 VDE: File 40016986 and 40016998 IEC: 60950-1: 2005 Annex Q from ∅ 10 mm / <br> / <br> / <br><b> Applications / <br> / <br></b> 12–48 VDC distribution / <br> / <br> 110–400 V power supply / <br> / <br> Leakage of voltage peaks / <br> / <br> Surge protection in accordance with EN 61000-4-5 / <br> / <br> / <br> / <br><a href="http://katalog.we-online.de/media/images/eisos/VarVD_pf2.jpg" title="Enlarge picture"> / <img src="http://katalog.we-online.de/media/images/eisos/VarVD_pf2.jpg" width="320"></a><p> / Details see: <a href="http://katalog.we-online.de/en/pbs/WE-VD?">http://katalog.we-online.de/en/pbs/WE-VD?</a><p> / Updated  by  Dan Xu 2014-07-11<br> / 2014 (C) Wurth Elektronik
MANUFACTURER: Würth Elektronik eiSos GmbH; CREATED-BY: Christin Zierenner; COMPANY-URL: http://www.we-online.de; CREATED-DATE: May 2012; DATASHEET-URL: http://katalog.we-online.de/kataloge/eisos/index.php?language=en&pf=WE-VD
footprint WE-VD_5MM-DIA
pins: 1, 2

## WE-VD_5MM,820551701
designator RV?, comment <b>WE-VD Disk Varistor / <br> / <br> / <br><b>Characteristics / <br> / <br></b></b> Low clamping voltage / <br> / <br> After a surge impulse the varistor works immediately in normal mode so there is no slip current / <br> / <br> Excellent absorption at surge impulses / <br> / <br> Operating temperature: –40 ºC to +85 ºC for types up to 95 VRMS –40 ºC to +125 ºC for types from 115 VRMS / <br> / <br> Response time < 25 ns / <br> / <br> UL1449 3rd Edition, CSA and VDE approved UL: File E332875 CSA: File 224856 VDE: File 40016986 and 40016998 IEC: 60950-1: 2005 Annex Q from ∅ 10 mm / <br> / <br> / <br><b> Applications / <br> / <br></b> 12–48 VDC distribution / <br> / <br> 110–400 V power supply / <br> / <br> Leakage of voltage peaks / <br> / <br> Surge protection in accordance with EN 61000-4-5 / <br> / <br> / <br> / <br><a href="http://katalog.we-online.de/media/images/eisos/VarVD_pf2.jpg" title="Enlarge picture"> / <img src="http://katalog.we-online.de/media/images/eisos/VarVD_pf2.jpg" width="320"></a><p> / Details see: <a href="http://katalog.we-online.de/en/pbs/WE-VD?">http://katalog.we-online.de/en/pbs/WE-VD?</a><p> / Updated  by  Dan Xu 2014-07-11<br> / 2014 (C) Wurth Elektronik
MANUFACTURER: Würth Elektronik eiSos GmbH; CREATED-BY: Christin Zierenner; COMPANY-URL: http://www.we-online.de; CREATED-DATE: May 2012; DATASHEET-URL: http://katalog.we-online.de/kataloge/eisos/index.php?language=en&pf=WE-VD
footprint WE-VD_5MM-DIA
pins: 1, 2

## WE-VD_5MM,820551711
designator RV?, comment <b>WE-VD Disk Varistor / <br> / <br> / <br><b>Characteristics / <br> / <br></b></b> Low clamping voltage / <br> / <br> After a surge impulse the varistor works immediately in normal mode so there is no slip current / <br> / <br> Excellent absorption at surge impulses / <br> / <br> Operating temperature: –40 ºC to +85 ºC for types up to 95 VRMS –40 ºC to +125 ºC for types from 115 VRMS / <br> / <br> Response time < 25 ns / <br> / <br> UL1449 3rd Edition, CSA and VDE approved UL: File E332875 CSA: File 224856 VDE: File 40016986 and 40016998 IEC: 60950-1: 2005 Annex Q from ∅ 10 mm / <br> / <br> / <br><b> Applications / <br> / <br></b> 12–48 VDC distribution / <br> / <br> 110–400 V power supply / <br> / <br> Leakage of voltage peaks / <br> / <br> Surge protection in accordance with EN 61000-4-5 / <br> / <br> / <br> / <br><a href="http://katalog.we-online.de/media/images/eisos/VarVD_pf2.jpg" title="Enlarge picture"> / <img src="http://katalog.we-online.de/media/images/eisos/VarVD_pf2.jpg" width="320"></a><p> / Details see: <a href="http://katalog.we-online.de/en/pbs/WE-VD?">http://katalog.we-online.de/en/pbs/WE-VD?</a><p> / Updated  by  Dan Xu 2014-07-11<br> / 2014 (C) Wurth Elektronik
MANUFACTURER: Würth Elektronik eiSos GmbH; CREATED-BY: Christin Zierenner; COMPANY-URL: http://www.we-online.de; CREATED-DATE: May 2012; DATASHEET-URL: http://katalog.we-online.de/kataloge/eisos/index.php?language=en&pf=WE-VD
footprint WE-VD_5MM-DIA
pins: 1, 2

## WE-VD_5MM,820551911
designator RV?, comment <b>WE-VD Disk Varistor / <br> / <br> / <br><b>Characteristics / <br> / <br></b></b> Low clamping voltage / <br> / <br> After a surge impulse the varistor works immediately in normal mode so there is no slip current / <br> / <br> Excellent absorption at surge impulses / <br> / <br> Operating temperature: –40 ºC to +85 ºC for types up to 95 VRMS –40 ºC to +125 ºC for types from 115 VRMS / <br> / <br> Response time < 25 ns / <br> / <br> UL1449 3rd Edition, CSA and VDE approved UL: File E332875 CSA: File 224856 VDE: File 40016986 and 40016998 IEC: 60950-1: 2005 Annex Q from ∅ 10 mm / <br> / <br> / <br><b> Applications / <br> / <br></b> 12–48 VDC distribution / <br> / <br> 110–400 V power supply / <br> / <br> Leakage of voltage peaks / <br> / <br> Surge protection in accordance with EN 61000-4-5 / <br> / <br> / <br> / <br><a href="http://katalog.we-online.de/media/images/eisos/VarVD_pf2.jpg" title="Enlarge picture"> / <img src="http://katalog.we-online.de/media/images/eisos/VarVD_pf2.jpg" width="320"></a><p> / Details see: <a href="http://katalog.we-online.de/en/pbs/WE-VD?">http://katalog.we-online.de/en/pbs/WE-VD?</a><p> / Updated  by  Dan Xu 2014-07-11<br> / 2014 (C) Wurth Elektronik
MANUFACTURER: Würth Elektronik eiSos GmbH; CREATED-BY: Christin Zierenner; COMPANY-URL: http://www.we-online.de; CREATED-DATE: May 2012; DATASHEET-URL: http://katalog.we-online.de/kataloge/eisos/index.php?language=en&pf=WE-VD
footprint WE-VD_5MM-DIA
pins: 1, 2

## WE-VD_5MM,820552001
designator RV?, comment <b>WE-VD Disk Varistor / <br> / <br> / <br><b>Characteristics / <br> / <br></b></b> Low clamping voltage / <br> / <br> After a surge impulse the varistor works immediately in normal mode so there is no slip current / <br> / <br> Excellent absorption at surge impulses / <br> / <br> Operating temperature: –40 ºC to +85 ºC for types up to 95 VRMS –40 ºC to +125 ºC for types from 115 VRMS / <br> / <br> Response time < 25 ns / <br> / <br> UL1449 3rd Edition, CSA and VDE approved UL: File E332875 CSA: File 224856 VDE: File 40016986 and 40016998 IEC: 60950-1: 2005 Annex Q from ∅ 10 mm / <br> / <br> / <br><b> Applications / <br> / <br></b> 12–48 VDC distribution / <br> / <br> 110–400 V power supply / <br> / <br> Leakage of voltage peaks / <br> / <br> Surge protection in accordance with EN 61000-4-5 / <br> / <br> / <br> / <br><a href="http://katalog.we-online.de/media/images/eisos/VarVD_pf2.jpg" title="Enlarge picture"> / <img src="http://katalog.we-online.de/media/images/eisos/VarVD_pf2.jpg" width="320"></a><p> / Details see: <a href="http://katalog.we-online.de/en/pbs/WE-VD?">http://katalog.we-online.de/en/pbs/WE-VD?</a><p> / Updated  by  Dan Xu 2014-07-11<br> / 2014 (C) Wurth Elektronik
MANUFACTURER: Würth Elektronik eiSos GmbH; CREATED-BY: Christin Zierenner; COMPANY-URL: http://www.we-online.de; CREATED-DATE: May 2012; DATASHEET-URL: http://katalog.we-online.de/kataloge/eisos/index.php?language=en&pf=WE-VD
footprint WE-VD_5MM-DIA
pins: 1, 2

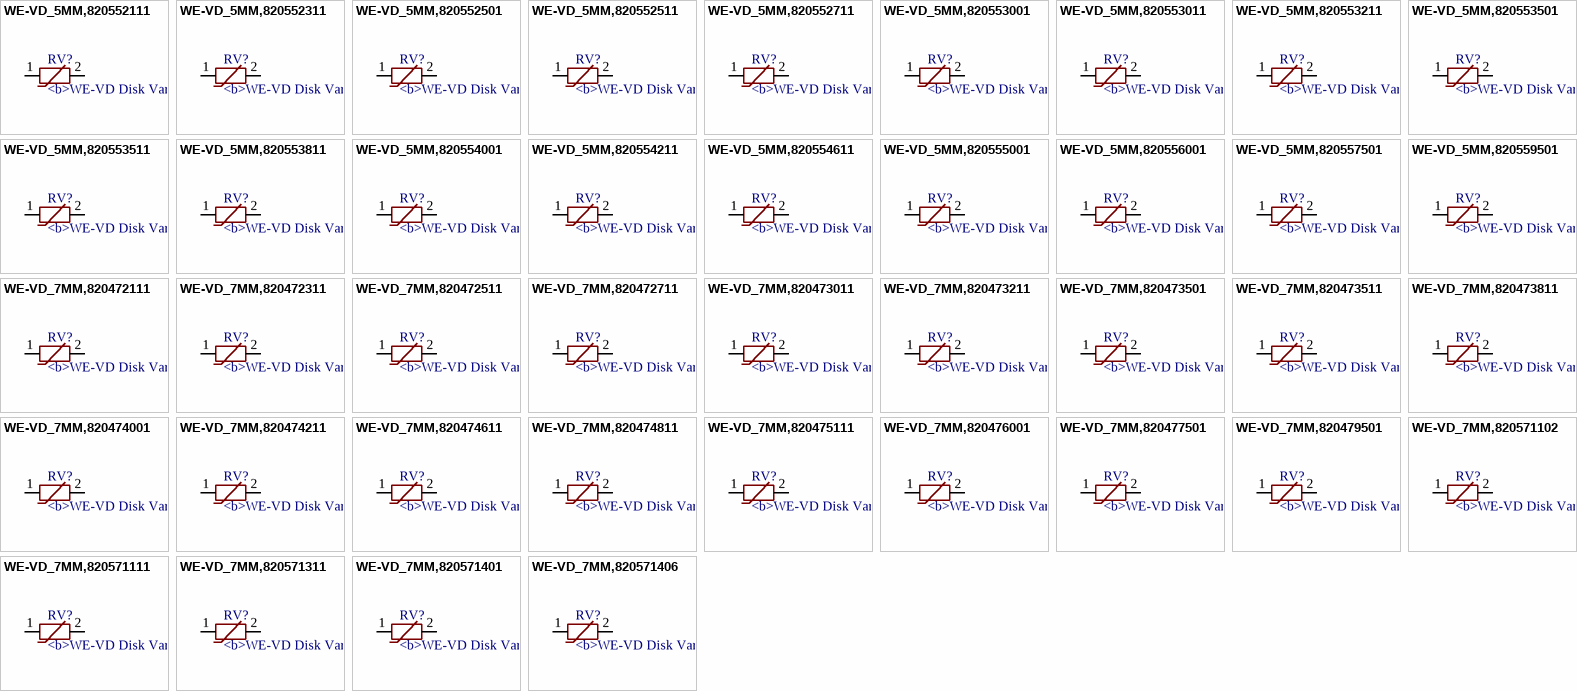
[diagram p50: symbols WE-VD_5MM,820552111 to WE-VD_7MM,820571406]

## WE-VD_5MM,820552111
designator RV?, comment <b>WE-VD Disk Varistor / <br> / <br> / <br><b>Characteristics / <br> / <br></b></b> Low clamping voltage / <br> / <br> After a surge impulse the varistor works immediately in normal mode so there is no slip current / <br> / <br> Excellent absorption at surge impulses / <br> / <br> Operating temperature: –40 ºC to +85 ºC for types up to 95 VRMS –40 ºC to +125 ºC for types from 115 VRMS / <br> / <br> Response time < 25 ns / <br> / <br> UL1449 3rd Edition, CSA and VDE approved UL: File E332875 CSA: File 224856 VDE: File 40016986 and 40016998 IEC: 60950-1: 2005 Annex Q from ∅ 10 mm / <br> / <br> / <br><b> Applications / <br> / <br></b> 12–48 VDC distribution / <br> / <br> 110–400 V power supply / <br> / <br> Leakage of voltage peaks / <br> / <br> Surge protection in accordance with EN 61000-4-5 / <br> / <br> / <br> / <br><a href="http://katalog.we-online.de/media/images/eisos/VarVD_pf2.jpg" title="Enlarge picture"> / <img src="http://katalog.we-online.de/media/images/eisos/VarVD_pf2.jpg" width="320"></a><p> / Details see: <a href="http://katalog.we-online.de/en/pbs/WE-VD?">http://katalog.we-online.de/en/pbs/WE-VD?</a><p> / Updated  by  Dan Xu 2014-07-11<br> / 2014 (C) Wurth Elektronik
MANUFACTURER: Würth Elektronik eiSos GmbH; CREATED-BY: Christin Zierenner; COMPANY-URL: http://www.we-online.de; CREATED-DATE: May 2012; DATASHEET-URL: http://katalog.we-online.de/kataloge/eisos/index.php?language=en&pf=WE-VD
footprint WE-VD_5MM-1.0
pins: 1, 2

## WE-VD_5MM,820552311
designator RV?, comment <b>WE-VD Disk Varistor / <br> / <br> / <br><b>Characteristics / <br> / <br></b></b> Low clamping voltage / <br> / <br> After a surge impulse the varistor works immediately in normal mode so there is no slip current / <br> / <br> Excellent absorption at surge impulses / <br> / <br> Operating temperature: –40 ºC to +85 ºC for types up to 95 VRMS –40 ºC to +125 ºC for types from 115 VRMS / <br> / <br> Response time < 25 ns / <br> / <br> UL1449 3rd Edition, CSA and VDE approved UL: File E332875 CSA: File 224856 VDE: File 40016986 and 40016998 IEC: 60950-1: 2005 Annex Q from ∅ 10 mm / <br> / <br> / <br><b> Applications / <br> / <br></b> 12–48 VDC distribution / <br> / <br> 110–400 V power supply / <br> / <br> Leakage of voltage peaks / <br> / <br> Surge protection in accordance with EN 61000-4-5 / <br> / <br> / <br> / <br><a href="http://katalog.we-online.de/media/images/eisos/VarVD_pf2.jpg" title="Enlarge picture"> / <img src="http://katalog.we-online.de/media/images/eisos/VarVD_pf2.jpg" width="320"></a><p> / Details see: <a href="http://katalog.we-online.de/en/pbs/WE-VD?">http://katalog.we-online.de/en/pbs/WE-VD?</a><p> / Updated  by  Dan Xu 2014-07-11<br> / 2014 (C) Wurth Elektronik
MANUFACTURER: Würth Elektronik eiSos GmbH; CREATED-BY: Christin Zierenner; COMPANY-URL: http://www.we-online.de; CREATED-DATE: May 2012; DATASHEET-URL: http://katalog.we-online.de/kataloge/eisos/index.php?language=en&pf=WE-VD
footprint WE-VD_5MM-1.1
pins: 1, 2

## WE-VD_5MM,820552501
designator RV?, comment <b>WE-VD Disk Varistor / <br> / <br> / <br><b>Characteristics / <br> / <br></b></b> Low clamping voltage / <br> / <br> After a surge impulse the varistor works immediately in normal mode so there is no slip current / <br> / <br> Excellent absorption at surge impulses / <br> / <br> Operating temperature: –40 ºC to +85 ºC for types up to 95 VRMS –40 ºC to +125 ºC for types from 115 VRMS / <br> / <br> Response time < 25 ns / <br> / <br> UL1449 3rd Edition, CSA and VDE approved UL: File E332875 CSA: File 224856 VDE: File 40016986 and 40016998 IEC: 60950-1: 2005 Annex Q from ∅ 10 mm / <br> / <br> / <br><b> Applications / <br> / <br></b> 12–48 VDC distribution / <br> / <br> 110–400 V power supply / <br> / <br> Leakage of voltage peaks / <br> / <br> Surge protection in accordance with EN 61000-4-5 / <br> / <br> / <br> / <br><a href="http://katalog.we-online.de/media/images/eisos/VarVD_pf2.jpg" title="Enlarge picture"> / <img src="http://katalog.we-online.de/media/images/eisos/VarVD_pf2.jpg" width="320"></a><p> / Details see: <a href="http://katalog.we-online.de/en/pbs/WE-VD?">http://katalog.we-online.de/en/pbs/WE-VD?</a><p> / Updated  by  Dan Xu 2014-07-11<br> / 2014 (C) Wurth Elektronik
MANUFACTURER: Würth Elektronik eiSos GmbH; CREATED-BY: Christin Zierenner; COMPANY-URL: http://www.we-online.de; CREATED-DATE: May 2012; DATASHEET-URL: http://katalog.we-online.de/kataloge/eisos/media/pdf/820552501.pdf
footprint WE-VD_5MM-DIA
pins: 1, 2

## WE-VD_5MM,820552511
designator RV?, comment <b>WE-VD Disk Varistor / <br> / <br> / <br><b>Characteristics / <br> / <br></b></b> Low clamping voltage / <br> / <br> After a surge impulse the varistor works immediately in normal mode so there is no slip current / <br> / <br> Excellent absorption at surge impulses / <br> / <br> Operating temperature: –40 ºC to +85 ºC for types up to 95 VRMS –40 ºC to +125 ºC for types from 115 VRMS / <br> / <br> Response time < 25 ns / <br> / <br> UL1449 3rd Edition, CSA and VDE approved UL: File E332875 CSA: File 224856 VDE: File 40016986 and 40016998 IEC: 60950-1: 2005 Annex Q from ∅ 10 mm / <br> / <br> / <br><b> Applications / <br> / <br></b> 12–48 VDC distribution / <br> / <br> 110–400 V power supply / <br> / <br> Leakage of voltage peaks / <br> / <br> Surge protection in accordance with EN 61000-4-5 / <br> / <br> / <br> / <br><a href="http://katalog.we-online.de/media/images/eisos/VarVD_pf2.jpg" title="Enlarge picture"> / <img src="http://katalog.we-online.de/media/images/eisos/VarVD_pf2.jpg" width="320"></a><p> / Details see: <a href="http://katalog.we-online.de/en/pbs/WE-VD?">http://katalog.we-online.de/en/pbs/WE-VD?</a><p> / Updated  by  Dan Xu 2014-07-11<br> / 2014 (C) Wurth Elektronik
MANUFACTURER: Würth Elektronik eiSos GmbH; CREATED-BY: Christin Zierenner; COMPANY-URL: http://www.we-online.de; CREATED-DATE: May 2012; DATASHEET-URL: http://katalog.we-online.de/kataloge/eisos/index.php?language=en&pf=WE-VD
footprint WE-VD_5MM-1.3
pins: 1, 2